# EAGLE library part USB_TYPE-C_MINIMAL (library PP_Connectors)
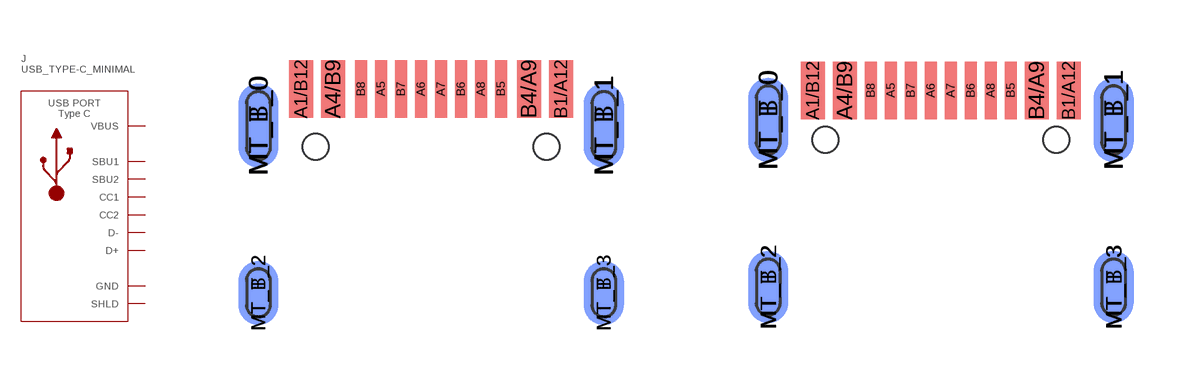
[diagram p34: symbol with the pads of TYPE-C-31-M-12; footprints TYPE-C-31-M-12, USB4105-GF-A]

Designator prefix J

## USB_TYPE-C_MINIMAL  [TYPE-C-31-M-12]
A1/B12  GND
A4/B9  VBUS
A5  CC1
A6  D+
A7  D-
A8  SBU1
B1/A12  GND
B4/A9  VBUS
B5  CC2
B6  D+
B7  D-
B8  SBU2
MT_B_0  SHLD
MT_B_1  SHLD
MT_B_2  SHLD
MT_B_3  SHLD
MT_T_0  SHLD
MT_T_1  SHLD
MT_T_2  SHLD
MT_T_3  SHLD

## USB_TYPE-C_MINIMAL_USB4105-GF-A  [USB4105-GF-A]
Pads as for TYPE-C-31-M-12

## Footprint TYPE-C-31-M-12 (pad centres in mm)
smd 0.6 x 1.45: A1/B12 -3.25,5.095; A4/B9 -2.45,5.095; B1/A12 3.25,5.095; B4/A9 2.45,5.095
smd 0.3 x 1.45: A5 -1.25,5.095; A6 -0.25,5.095; A7 0.25,5.095; A8 1.25,5.095; B5 1.75,5.095; B6 0.75,5.095; B7 -0.75,5.095; B8 -1.75,5.095
smd 1 x 2.1 bottom: MT_B_0 -4.32,4.18; MT_B_1 4.32,4.18
smd 1 x 1.6 bottom: MT_B_2 -4.32,0; MT_B_3 4.32,0
smd 1 x 2.1: MT_T_0 -4.32,4.18; MT_T_1 4.32,4.18
smd 1 x 1.6: MT_T_2 -4.32,0; MT_T_3 4.32,0
hole 0.65 at -2.89,3.65
hole 0.65 at 2.89,3.65

## Footprint USB4105-GF-A (pad centres in mm)
smd 0.6 x 1.45: A1/B12 -3.2,4.915; A4/B9 -2.4,4.915; B1/A12 3.2,4.915; B4/A9 2.4,4.915
smd 0.3 x 1.45: A5 -1.25,4.915; A6 -0.25,4.915; A7 0.25,4.915; A8 1.25,4.915; B5 1.75,4.915; B6 0.75,4.915; B7 -0.75,4.915; B8 -1.75,4.915
smd 1 x 2.1 bottom: MT_B_0 -4.32,4.18; MT_B_1 4.32,4.18
smd 1 x 1.8 bottom: MT_B_2 -4.32,0; MT_B_3 4.32,0
smd 1 x 2.1: MT_T_0 -4.32,4.18; MT_T_1 4.32,4.18
smd 1 x 1.8: MT_T_2 -4.32,0; MT_T_3 4.32,0
hole 0.65 at -2.89,3.68
hole 0.65 at 2.89,3.68